# Altium schematic symbol library Header.SchLib: 1 symbol
Pins are listed as number, name and electrical type; pins without a type are passive.

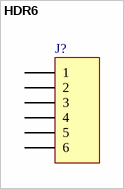
[diagram p0: symbol HDR6]

## HDR6
designator J?  (value not drawn)
Header, 6-Pin
pins: 1, 2, 3, 4, 5, 6